# EAGLE library part SX1276 (library df4iah_rf)
SEMTECH SX1276 137 MHz to 1020 MHz Low Power Long Range Transceiver LoRa(TM) Modem FSK, GFSK, MSK, GMSK, LoRa(TM) and OOK modulation 168 dB maximum link budget Reference: https://www.semtech.com/products/wireless-rf/lora-transceivers/SX1276
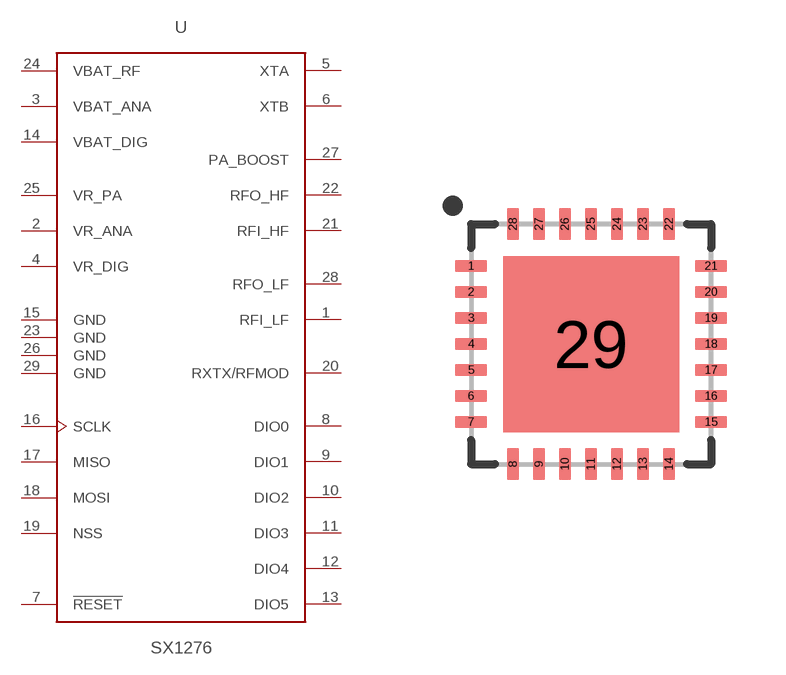
[diagram p1: symbol with the pads of QFN28-6X6-0P65-PAD; footprint QFN28-6X6-0P65-PAD]

Designator prefix U

## SX1276  [QFN28-6X6-0P65-PAD]
1  RFI_LF  pas
2  VR_ANA  pas
3  VBAT_ANA  pas
4  VR_DIG  pas
5  XTA  pas
6  XTB  pas
7  !RESET  pas
8  DIO0
9  DIO1
10  DIO2
11  DIO3
12  DIO4
13  DIO5
14  VBAT_DIG  pas
15  GND  pwr
16  SCLK  in
17  MISO  out
18  MOSI  in
19  NSS  in
20  RXTX/RFMOD  pas
21  RFI_HF  pas
22  RFO_HF  pas
23  GND  pwr
24  VBAT_RF  pas
25  VR_PA  pas
26  GND  pwr
27  PA_BOOST  pas
28  RFO_LF  pas
29  GND  pwr

## Footprint QFN28-6X6-0P65-PAD (pad centres in mm)
28-Pin QFN - 6.0 x 6.0 mm - 0.65P - with center pad
smd 0.8 x 0.3: 1 -3,1.95; 2 -3,1.3; 3 -3,0.65; 4 -3,0; 5 -3,-0.65; 6 -3,-1.3; 7 -3,-1.95; 15 3,-1.95; 16 3,-1.3; 17 3,-0.65; 18 3,0; 19 3,0.65; 20 3,1.3; 21 3,1.95
smd 0.3 x 0.8: 8 -1.95,-3; 9 -1.3,-3; 10 -0.65,-3; 11 0,-3; 12 0.65,-3; 13 1.3,-3; 14 1.95,-3; 22 1.95,3; 23 1.3,3; 24 0.65,3; 25 0,3; 26 -0.65,3; 27 -1.3,3; 28 -1.95,3
smd 4.4 x 4.4: 29 0,0